# Altium schematic symbol library BQ51013BRHLT.SchLib: 1 symbol
Pins are listed as number, name and electrical type; pins without a type are passive.

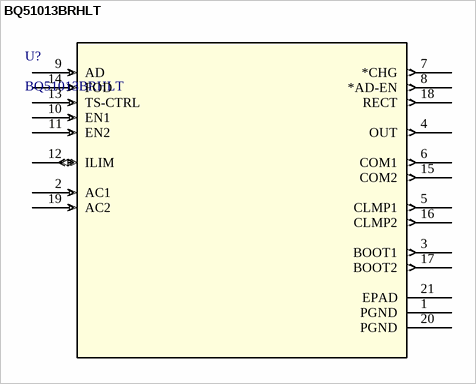
[diagram p0: symbol BQ51013BRHLT]

## BQ51013BRHLT
designator U?
WPC 1.1 Compatible Fully integrated Wireless power Receiver IC 20-VQFN 0 to 125; Manufacturer_Name: Texas Instruments; Copyright: Copyright (C) 2026 Ultra Librarian. All rights reserved.; Manufacturer_Part_Number: BQ51013BRHLT; RefDes: RefDes; Type: Type
footprint RHL20_2P05X3P05
pins: 1 PGND (power), 2 AC1 (in), 3 BOOT1 (out), 4 OUT (out), 5 CLMP1 (out), 6 COM1 (out), 7 *CHG (out), 8 *AD-EN (out), 9 AD (in), 10 EN1 (in), 11 EN2 (in), 12 ILIM (io), 13 TS-CTRL (in), 14 FOD (in), 15 COM2 (out), 16 CLMP2 (out), 17 BOOT2 (out), 18 RECT (out), 19 AC2 (in), 20 PGND (power), 21 EPAD